# EAGLE library part STM32F072_BU6 (library Controller)
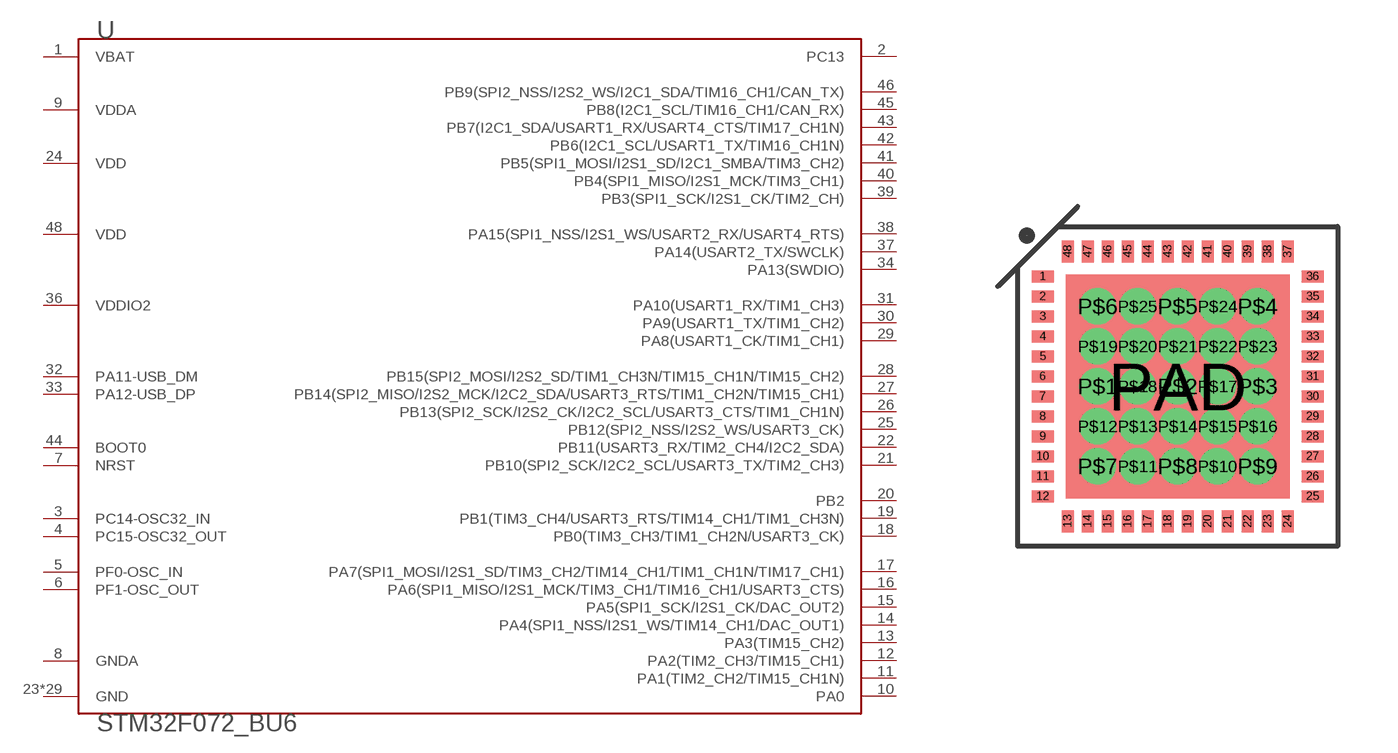
[diagram p21: symbol with the pads of UFQFPN-48; footprint UFQFPN-48]

Designator prefix -

## STM32F072_BU6  [UFQFPN-48]
1  VBAT
2  PC13
3  PC14-OSC32_IN
4  PC15-OSC32_OUT
5  PF0-OSC_IN
6  PF1-OSC_OUT
7  NRST
8  GNDA
9  VDDA
10  PA0
11  PA1(TIM2_CH2/TIM15_CH1N)
12  PA2(TIM2_CH3/TIM15_CH1)
13  PA3(TIM15_CH2)
14  PA4(SPI1_NSS/I2S1_WS/TIM14_CH1/DAC_OUT1)
15  PA5(SPI1_SCK/I2S1_CK/DAC_OUT2)
16  PA6(SPI1_MISO/I2S1_MCK/TIM3_CH1/TIM16_CH1/USART3_CTS)
17  PA7(SPI1_MOSI/I2S1_SD/TIM3_CH2/TIM14_CH1/TIM1_CH1N/TIM17_CH1)
18  PB0(TIM3_CH3/TIM1_CH2N/USART3_CK)
19  PB1(TIM3_CH4/USART3_RTS/TIM14_CH1/TIM1_CH3N)
20  PB2
21  PB10(SPI2_SCK/I2C2_SCL/USART3_TX/TIM2_CH3)
22  PB11(USART3_RX/TIM2_CH4/I2C2_SDA)
23  GND
24  VDD
25  PB12(SPI2_NSS/I2S2_WS/USART3_CK)
26  PB13(SPI2_SCK/I2S2_CK/I2C2_SCL/USART3_CTS/TIM1_CH1N)
27  PB14(SPI2_MISO/I2S2_MCK/I2C2_SDA/USART3_RTS/TIM1_CH2N/TIM15_CH1)
28  PB15(SPI2_MOSI/I2S2_SD/TIM1_CH3N/TIM15_CH1N/TIM15_CH2)
29  PA8(USART1_CK/TIM1_CH1)
30  PA9(USART1_TX/TIM1_CH2)
31  PA10(USART1_RX/TIM1_CH3)
32  PA11-USB_DM
33  PA12-USB_DP
34  PA13(SWDIO)
35  GND
36  VDDIO2
37  PA14(USART2_TX/SWCLK)
38  PA15(SPI1_NSS/I2S1_WS/USART2_RX/USART4_RTS)
39  PB3(SPI1_SCK/I2S1_CK/TIM2_CH)
40  PB4(SPI1_MISO/I2S1_MCK/TIM3_CH1)
41  PB5(SPI1_MOSI/I2S1_SD/I2C1_SMBA/TIM3_CH2)
42  PB6(I2C1_SCL/USART1_TX/TIM16_CH1N)
43  PB7(I2C1_SDA/USART1_RX/USART4_CTS/TIM17_CH1N)
44  BOOT0
45  PB8(I2C1_SCL/TIM16_CH1/CAN_RX)
46  PB9(SPI2_NSS/I2S2_WS/I2C1_SDA/TIM16_CH1/CAN_TX)
47  GND
48  VDD
P$1  GND
P$2  GND
P$3  GND
P$4  GND
P$5  GND
P$6  GND
P$7  GND
P$8  GND
P$9  GND
P$10  GND
P$11  GND
P$12  GND
P$13  GND
P$14  GND
P$15  GND
P$16  GND
P$17  GND
P$18  GND
P$19  GND
P$20  GND
P$21  GND
P$22  GND
P$23  GND
P$24  GND
P$25  GND
PAD  GND

## Footprint UFQFPN-48 (pad centres in mm)
smd 0.55 x 0.3: 1 -3.375,2.75; 2 -3.375,2.25; 3 -3.375,1.75; 4 -3.375,1.25; 5 -3.375,0.75; 6 -3.375,0.25; 7 -3.375,-0.25; 8 -3.375,-0.75; 9 -3.375,-1.25; 10 -3.375,-1.75; 11 -3.375,-2.25; 12 -3.375,-2.75; 25 3.375,-2.75; 26 3.375,-2.25; 27 3.375,-1.75; 28 3.375,-1.25; 29 3.375,-0.75; 30 3.375,-0.25; 31 3.375,0.25; 32 3.375,0.75; 33 3.375,1.25; 34 3.375,1.75; 35 3.375,2.25; 36 3.375,2.75
smd 0.3 x 0.55: 13 -2.75,-3.375; 14 -2.25,-3.375; 15 -1.75,-3.375; 16 -1.25,-3.375; 17 -0.75,-3.375; 18 -0.25,-3.375; 19 0.25,-3.375; 20 0.75,-3.375; 21 1.25,-3.375; 22 1.75,-3.375; 23 2.25,-3.375; 24 2.75,-3.375; 37 2.75,3.375; 38 2.25,3.375; 39 1.75,3.375; 40 1.25,3.375; 41 0.75,3.375; 42 0.25,3.375; 43 -0.25,3.375; 44 -0.75,3.375; 45 -1.25,3.375; 46 -1.75,3.375; 47 -2.25,3.375; 48 -2.75,3.375
drill 0.4 pad 0.5: P$1 -2,0; P$2 0,0; P$3 2,0; P$4 2,2; P$5 0,2; P$6 -2,2; P$7 -2,-2; P$8 0,-2; P$9 2,-2; P$10 1,-2; P$11 -1,-2; P$12 -2,-1; P$13 -1,-1; P$14 0,-1; P$15 1,-1; P$16 2,-1; P$17 1,0; P$18 -1,0; P$19 -2,1; P$20 -1,1; P$21 0,1; P$22 1,1; P$23 2,1; P$24 1,2; P$25 -1,2
smd 5.6 x 5.6: PAD 0,0